# Altium footprint library PCB_MDL_SEC_BAR - Copy.PcbLib: 6 footprints
Each footprint in its own frame and in the unit in brackets; x right, y up, seen from the top. Pads: shape width x height; smd on the part's side, far side on the other; paste and mask are expansions set on the pad; w line width, h text height; cw(c..) or ccw(c..) is an arc to the next point about the centre after c.
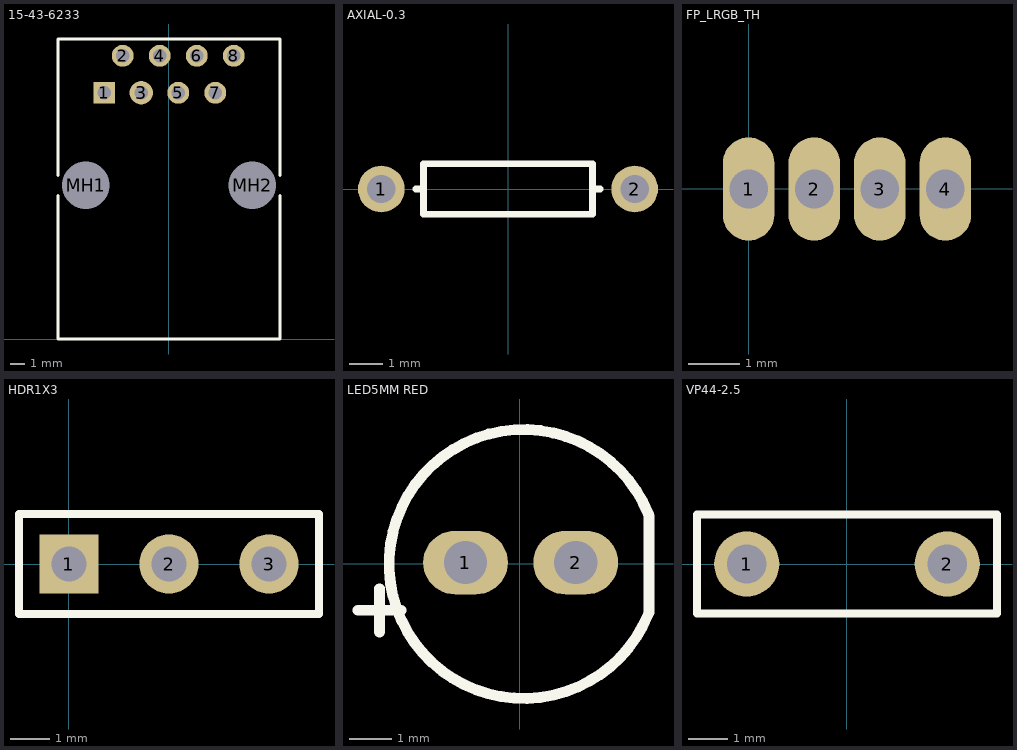
[diagram p0: the footprints below, top view; thin cyan lines are the x and y axes]

## 15-43-6233 [mm] "Connector; PCB Jack, Thru-Hole; 1-Port; Unshielded without Lightpipes; Right Angle"
height 18.92
pads (10):
  rect 1.5x1.5 hole 0.9: 1(-4.445,16.89)
  round 1.5 hole 0.9: 2(-3.175,19.43) 4(-0.635,19.43) 5(0.635,16.89) 6(1.905,19.43) 7(3.175,16.89) 8(4.445,19.43)
  round 1.6 hole 0.9: 3(-1.905,16.89)
  round 2.95 hole 3.25 unplated: MH1(-5.715,10.54) MH2(5.715,10.54)
Top Overlay:
  lines w0.2: -7.62,9.853 -7.62,0 7.62,0 7.62,9.853 ; -7.62,11.227 -7.62,20.58 7.62,20.58 7.62,11.227

## AXIAL-0.3 [mm] "Axial Device, Thru-Hole; 2 Leads; 0.3 in Pin Spacing"
height 1.524
pads (2):
  round 1.4 hole 0.85: 1(-3.81,0) 2(3.81,0)
Top Overlay:
  lines w0.2: -2.769,0 -2.54,0 ; 2.769,0 2.54,0 ; 2.54,0 2.54,-0.762 -2.54,-0.762 -2.54,0.762 2.54,0.762 2.54,0

## FP_LRGB_TH [mm]
pads (4):
  oval 1x2 hole 0.75: 1(0,0) 2(1.27,0) 3(2.54,0) 4(3.81,0)

## HDR1X3 [mm] "Connector; Header; 3 Position"
height 13.21
pads (3):
  rect 1.5x1.5 hole 0.9: 1(0,0)
  round 1.5 hole 0.9: 2(2.54,0) 3(5.08,0)
Top Overlay:
  lines w0.2: -1.27,-1.27 -1.27,1.27 6.35,1.27 6.35,-1.27 -1.27,-1.27

## LED5MM RED [mm] "Led de 5mm rojo"
height 13.21
pads (2):
  oval 2x1.5 hole 1.016: 1(-1.275,0.025) 2(1.325,0.025)
Top Overlay:
  lines w0.254: -3.808,-1.1 -2.792,-1.1 ; -3.3,-1.608 -3.3,-1.1 -3.3,-0.592 ; 3.034,-1.192 cw(c0.094,-0.008) 3.039,1.165 ; 3.05,-1.15 3.05,1.125
3D body: height 12.31, standoff -2.49, extent -2.885,-2.875 2.535,3.145

## VP44-2.5 [mm] "Capacitor, Ceramic, Thru-Hole, Dipped Radial; Body 7.6 x 2.5 mm (WxT) Pin Spacing 5.08 mm (typ)"
height 9
pads (2):
  round 1.65 hole 1: 1(-2.54,0) 2(2.54,0)
Top Overlay:
  lines w0.2: -3.8,-1.25 3.8,-1.25 3.8,1.25 -3.8,1.25 -3.8,-1.25